# Altium schematic symbol library UltraZohm_ADC.SCHLIB: 63 symbols
Pins are listed as number, name and electrical type; pins without a type are passive.

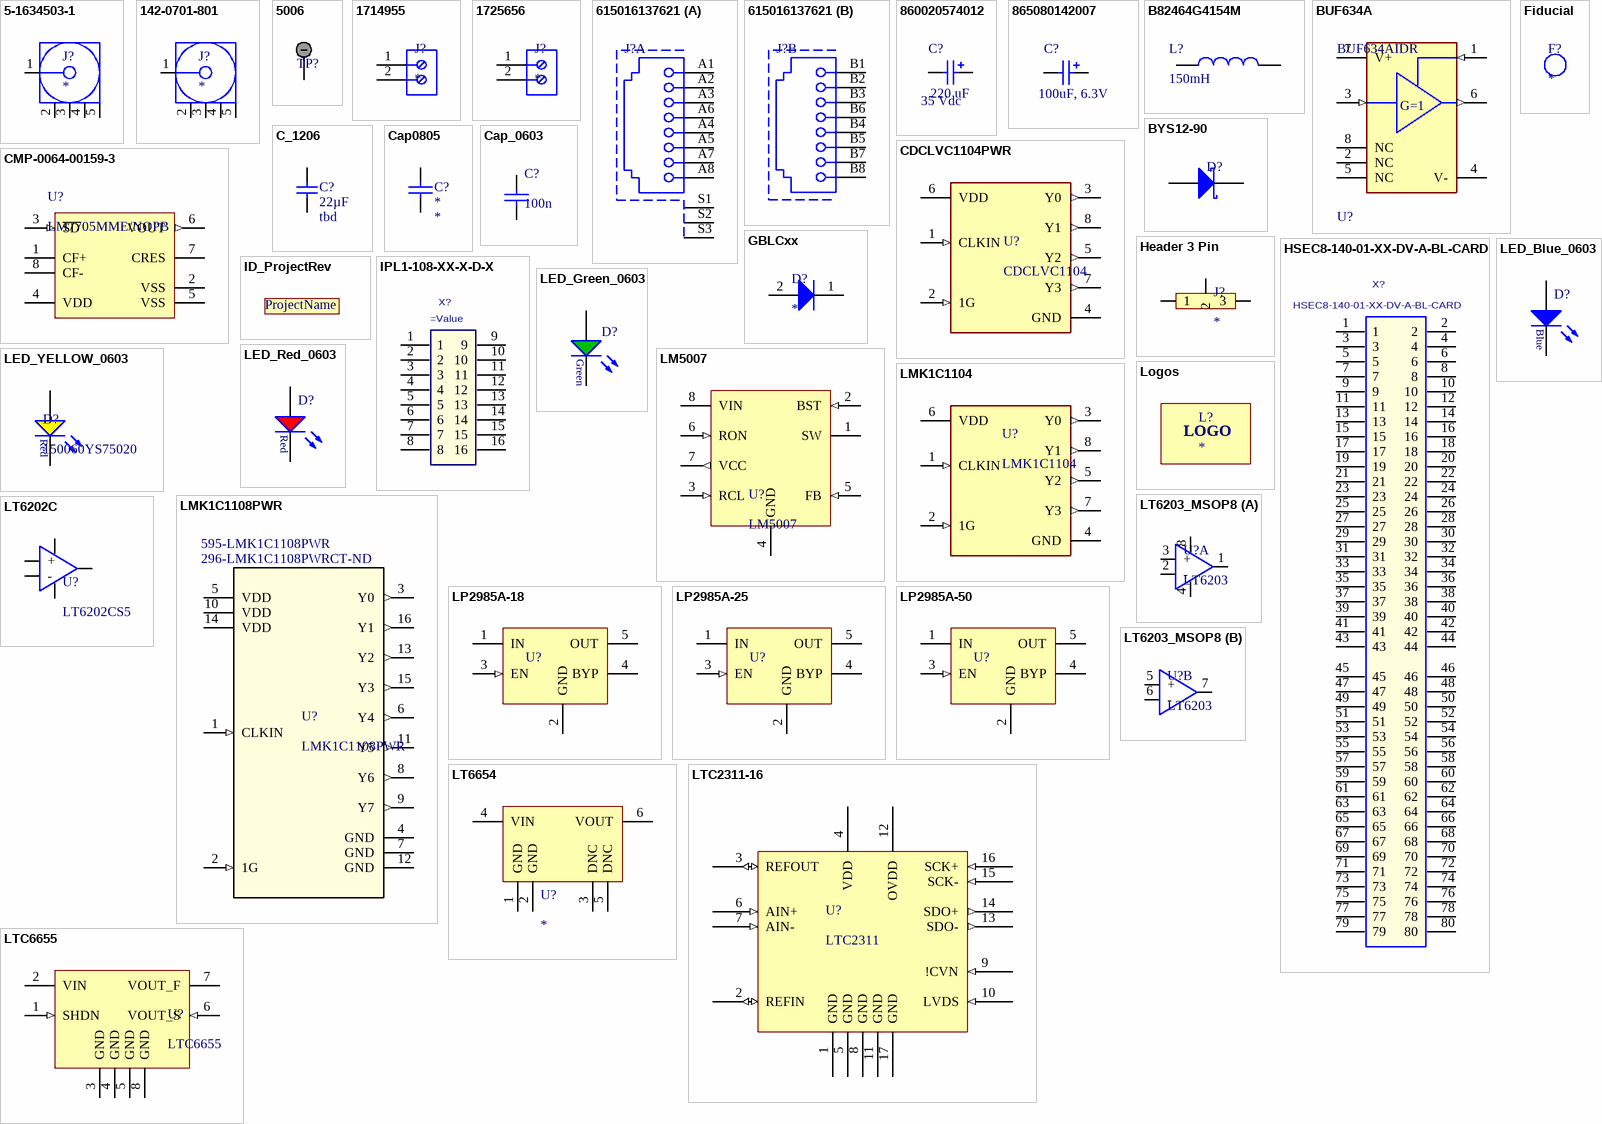
[diagram p0: symbols 5-1634503-1 to LTC6655]

## 5-1634503-1
designator J?
BNC Str PCB Skt 50Ohm Nickel Pltd; Manufacturer: TE Connectivity; Manufacturer Part Number: 5-1634503-1; Dielectric Material: Polymethylpentene; Body Material: Zinc; Impedance: 50R; Frequency: 4GHz; Gender: Female; Connector Type: BNC,Jack; Insulation Resistance: 5GR; Number of Positions: 1; PCB Mount Retention: With; Sealable: No (Without); Connector System: Cable-to-Board; Polarity: Standard,Normal; PCB Thickness: 0.126inch; Tail Length: 0.177inch; Supplier 1: Mouser; RoHS: Yes; Category: RF / Coaxial Connectors; Stock 1: 5615; Mount: Through Hole,PCB; Contact Material: Bronze; Contact Plating: Gold; Insulation Material: Polymethylpentene; Body Plating: Nickel; Min Operating Temperature: -67°C; Max Operating Temperature: 185°C; Orientation: Straight; Termination: Solder; Packaging: Box; Package Quantity: 100; Fastening Type: Bayonet; Max Frequency: 4GHz; Length: 13.7mm; Depth: 11mm; Radiation Hardening: No; ELV: Compliant; REACH SVHC: No SVHC; ComponentLink6URL: https://datasheet.ciiva.com/16652/eng-cd-1634503-c-16652893.pdf?src-supplier=Avnet+Europe; ComponentLink6Description: Product Drawing; Supplier Part Number 1: 571-5-1634503-1; ComponentLink7Description: Manufacturer; ComponentLink7URL: https://www.te.com/deu-de/home.html; ComponentLink8Description: Datasheet; ComponentLink8URL: https://www.te.com/deu-de/product-5-1634503-1.datasheet.pdf
footprint TECO-5-1634503-1_V (THD, 5-Leads,Dia 11mm, Pitch 3.13mm)
pins: 1, 2, 3, 4, 5

## 142-0701-801
designator J?
CONN SMA JACK STR 50OHM EDGE MNT; Manufacturer: Bel Johnson; Manufacturer Part Number: 142-0701-801; Body Plating: Gold; Body Material: Brass; Dielectric Material: PTFE; Impedance: 50R; Gender: Female; Connector Type: SMA,Socket; Max Frequency: 18GHz; Voltage Rating: 335V; Supplier 1: Mouser; RoHS: Yes; Category: RF / Coaxial Connectors; Stock 1: 12385; Mount: Edge; Case/Package: SMA; Contact Plating: Gold; Contact Material: Copper; Housing Color: Gold; Min Operating Temperature: -65°C; Max Operating Temperature: 165°C; Orientation: Straight; Termination: Solder; Package Quantity: 25; Packaging: Bulk; Fastening Type: Threaded; ComponentLink2URL: http://www.farnell.com/datasheets/2048966.pdf?src-supplier=Newark; ComponentLink2Description: Datasheet1; ComponentLink3URL: https://cinchconnectivity.com/OA_HTML/ibeCCtpItmDspRte.jsp?item=4253257&src-supplier=Mouser; ComponentLink3Description: Datasheet2; Supplier Part Number 1: 530-142-0701-801; ComponentLink4Description: Manufacturer; ComponentLink4URL: https://belfuse.com/
footprint 142-0701-801 (SMA Connector, 5-Leads, Body 14.275x9.525mm)
pins: 1, 2, 3, 4, 5

## 5006
designator TP?
Test Point;  Compact;  THM;  PC;  .350 L;  .125 OD;  Heat Resistant Nylon 46;  Black; Manufacturer: Keystone Electronics; Manufacturer Part Number: 5006; Body Material: PBT; Plating: Silver; Number of Ports: 1; Outside Diameter: 3.18mm; Inside Diameter: 1.78mm; Hole Diameter: 1.6mm; Supplier 1: Mouser; RoHS: Yes; Category: Connectors; Stock 1: 203116; Mount: PCB,Through Hole; Material: Nylon,Bronze,Silver; Contact Material: Bronze; Contact Plating: Tin,Silver; Color: Black; Housing Color: Black; Package Quantity: 100; Packaging: Bulk; Orientation: Straight; Length: 8.89mm; Height: 0.35inch; Lead Free: Lead Free; REACH SVHC: No SVHC; Flammability Rating: UL94 V-0; ComponentLink1URL: https://datasheet.ciiva.com/1123/m60-2p60-1123808.pdf?src-supplier=Newark; ComponentLink1Description: Datasheet1; ComponentLink2URL: https://datasheet.ciiva.com/1454/1718283-1454829.pdf?src-supplier=Element14; ComponentLink2Description: Datasheet2; ComponentLink3URL: https://datasheet.ciiva.com/11744/0900766b8009b7c7-11744947.pdf?src-supplier=RSComponents; ComponentLink3Description: Datasheet3; ComponentLink4URL: https://datasheet.ciiva.com/2917/m60-2p60-2917629.pdf?src-supplier=Digi-Key; ComponentLink4Description: Datasheet4; ComponentLink5URL: https://datasheet.ciiva.com/16883/70182825-16883963.pdf?src-supplier=Allied+Electronics; ComponentLink5Description: Datasheet5; Supplier Part Number 1: 534-5006; ComponentLink6Description: Manufacturer; ComponentLink6URL: https://www.keyelco.com/
footprint TP_5006 (Test Point, Through Hole, Dia 3.18mm)
pins: 1

## 1714955
designator J?
Conn Terminal Blocks 2 POS 6.35mm Solder ST Thru-Hole 32A; Manufacturer: Phoenix Contact; Manufacturer Part Number: 1714955; Max Supply Voltage: 500V; Voltage Rating: 630V; Number of Poles: 2; Number of Levels: 1; Current: 30A; Voltage: 300V; Gender: Male; Connector Type: PCB,Terminal Block; Wire Gauge (Max): 24AWG; Wire Gauge (Min): 10AWG; Stripping Length: 8mm; Approvals: UL,CSA,cULus; Supplier 1: Mouser; RoHS: Yes; Category: Terminal Blocks; Stock 1: 477; Mount: Through Hole; Number of Pins: 2; Weight: 0.197534oz; Color: Green; Housing Material: Polyamide; Housing Color: Green; Material: Polyamide; Insulation Material: Nylon; Contact Material: Tin; Package Quantity: 50; Packaging: Bulk; Termination: Screw; Max Current Rating: 32A; Current Rating: 32A; Number of Rows: 1; Orientation: Straight; Number of Positions Per Level: 2; Number of Positions: 2; Number of Contacts: 2; Number of Circuits: 2; Length: 12.7mm; Height: 26.6mm; Width: 26.6mm; Pitch: 6.35mm; Depth: 12.5mm; Wire/Cable Gauge: 24AWG; Radiation Hardening: No; Lead Free: Lead Free; Flammability Rating: UL94 V-0; REACH SVHC: No SVHC; ComponentLink1URL: https://datasheet.ciiva.com/16071/1714955-16071953.pdf?src-supplier=Onlinecomponents.com; ComponentLink1Description: Datasheet1; ComponentLink2URL: https://datasheet.ciiva.com/824/1714955-824307.pdf?src-supplier=Digi-Key; ComponentLink2Description: Datasheet2; ComponentLink3URL: https://datasheet.ciiva.com/1120/100944-1120389.pdf?src-supplier=Farnell; ComponentLink3Description: Datasheet3; ComponentLink4URL: https://datasheet.ciiva.com/15169/getdatasheetpartid-177883-15169653.pdf?src-supplier=Verical; ComponentLink4Description: Datasheet4; ComponentLink5URL: https://datasheet.ciiva.com/1118/100944-1118422.pdf?src-supplier=Element14; ComponentLink5Description: Datasheet5; ComponentLink6URL: https://datasheet.ciiva.com/14607/70054427-14607514.pdf?src-supplier=Allied+Electronics; ComponentLink6Description: Datasheet6; ComponentLink7URL: https://datasheet.ciiva.com/29218/744545-da-01-en-printklemme-mkds-5-2-6-35-29218282.pdf?src-supplier=Conrad; ComponentLink7Description: Datasheet7; Supplier Part Number 1: 651-1714955; ComponentLink8Description: Manufacturer; ComponentLink8URL: https://www.phoenixcontact.com/online/portal/de?1dmy&urile=wcm:path:/dede/web/home
footprint PHOE-1714955_V (Terminal Block, 2-Leads, Body 12.7x12.5mm, Pitch 6.35mm)
pins: 1, 2

## 1725656
designator J?
PHOENIX CONTACT - 1725656 - Wire-To-Board Terminal Block, 2.54 mm, 2 Ways, 26 AWG, 20 AWG, 0.5 mm², Screw; Voltage Rating: 125V; Number of Contacts: 2; Max Current Rating: 6A; Number of Levels: 1; Max Supply Voltage: 63V; Connector Type: Screw,PCB,Terminal Block; Wire Gauge (Max): 26AWG; Wire Gauge (Min): 20AWG; Pitch: 2.54mm; Stripping Length: 4.5mm; Approvals: UL,CSA,cULus; Supplier 1: Mouser; Manufacturer: Phoenix Contact; Manufacturer Part Number: 1725656; RoHS: Yes; Category: Terminal Blocks; Stock 1: 6749; Mount: Through Hole; Number of Pins: 2; Weight: 0.022575oz; Contact Material: Tin; Color: Green; Housing Color: Green; Housing Material: Polyamide; Insulation Material: Nylon; Termination: Solder; Package Quantity: 50; Packaging: Bulk; Voltage: 125V; Number of Rows: 1; Current Rating: 6A; Number of Positions Per Level: 2; Current: 6A; Number of Positions: 2; Orientation: Straight; Number of Poles: 2; Number of Circuits: 2; Length: 5.54mm; Height: 6.2mm; Width: 12mm; Depth: 6.2mm; Wire/Cable Gauge: 26AWG; Radiation Hardening: No; Lead Free: Lead Free; Flammability Rating: UL94 V-0; REACH SVHC: No SVHC; ComponentLink3URL: https://datasheet.ciiva.com/1120/319957-1120510.pdf?src-supplier=Farnell; ComponentLink3Description: Datasheet1; ComponentLink4URL: https://datasheet.ciiva.com/15169/getdatasheetpartid-199323-15169849.pdf?src-supplier=Verical; ComponentLink4Description: Datasheet2; Supplier Part Number 1: 651-1725656; ComponentLink5Description: Manufacturer; ComponentLink5URL: https://www.phoenixcontact.com/online/portal/de?1dmy&urile=wcm:path:/dede/web/home
footprint PHOE-1725656-2 (Connector, 2-Leads, Body 6.2x5.4mm, Pitch 2.54mm)
pins: 1, 2

## 615016137621
designator J?
Modular Jack WR-MJ, Tab Down, Shielded, Dual Port, Horizontal Entry, THT, 8P8C; MPN: 615016137621; MF: Wurth Elektronik; Port: 1x2; Compliance: Lead free / RoHS; Rated Current: 1.5 A; Working Voltage: 120 VAC; Withstanding Voltage: 1000 VAC; Contact Resistance: 20 mOhm; ComponentLink1Description: Manufacturer; ComponentLink1URL: http://www.we-online.de; ComponentLink2Description: Datasheet; ComponentLink2URL: https://katalog.we-online.de/em/datasheet/615016137621.pdf; Published Date: July 2018; Pin Number: 8P8C; Operating Temperature: -40 to 85 degC; Mounting Technology: THT; Packaging: Tray; Entrance: Horizontal; Supplier 1: Farnell; Supplier 2: Mouser; Supplier 3: Digi-Key; Supplier Part Number 1: 1841174; Supplier Part Number 2: 710-615016137621; Supplier Part Number 3: 732-2744-ND
footprint 615016137621 (Modular Jack Horizontal Shielded Dual Port 8P8C Tab Down)
part A pins: A1, A2, A3, A4, A5, A6, A7, A8, S1, S2, S3
part B pins: B1, B2, B3, B4, B5, B6, B7, B8

## 860020574012
designator C?, comment 220 uF  Voltage: 35 Vdc
WCAP-ATG5 Aluminum Electrolytic Capacitors, 8x11.5mm, 35 Vdc, 220 uF; Part Number: 860020574012; MF: Wurth Elektronik; ComponentLink1Description: Manufacturer; ComponentLink1URL: http://www.we-online.de; ComponentLink2Description: Datasheet; ComponentLink2URL: http://katalog.we-online.com/pbs/datasheet/860020574012.pdf; Published Date: Sep. 2017; Size: 8x11.5mm; Life Cycle: 2000h; Operating Temperature: -40 °C up to +105 °C; Value: 220 uF; MPN: 860020574012; Supplier 1: Mouser; Supplier Part Number 1: 710-860020574012
footprint WCAP-ATG5_8x11.5x3.5
pins: 1 P, 2 N

## 865080142007
designator C?, comment 100uF, 6.3V
WCAP-ASLI Aluminum Electrolytic Capacitor, V-Chip, SMT, D5xH5.5mm, 100uF, 6.3V; MPN: 865080142007; Dissipation Factor: 24%; Endurance: 2000h; Leakage Current: 6.3uA; MF: Wurth Elektronik; Ripple Current: 170mA; Capacitance Tolerance: +/-20%; Technical Reference: ASEC055101M6R3DVCTBB000; ComponentLink1Description: Manufacturer; ComponentLink1URL: http://www.we-online.de; ComponentLink2Description: Datasheet; ComponentLink2URL: https://www.we-online.com/catalog/datasheet/865080142007.pdf; Height: 5.5mm; Mounting Technology: SMT; Operating Temperature: -55 to +105degC; Packaging: Tape and Reel; Published Date: May 2020; Value: 100uF; Diameter: 5mm; Voltage: 6.3V; Supplier 1: Mouser; Supplier Part Number 1: 710-865080142007
footprint WCAP-ASLI_5x5.5
pins: 1 N, 2 P

## B82464G4154M
designator L?, comment 150mH
SMT power Inductor, 150uH, 320m DRC; MPN: B82464G4154M; MF: EPCOS / TDK; Rated Current: 0.85 A; Supplier 1: Mouser; Supplier Part Number 1: 871-B82464G4154M; Value: 150mH; DCR: 320m; ComponentLink1Description: Manufacturer; ComponentLink1URL: https://www.tdk-electronics.tdk.com/de; ComponentLink2Description: Datasheet; ComponentLink2URL: https://www.tdk-electronics.tdk.com/inf/30/db/ind_2008/b82464g4.pdf
footprint SMT_inductor_1050_Performance (SMD Shielded Power Inductor, 2-leads, body 10.3x10.5mm)
pins: 1, 2

## BUF634A
designator U?, comment BUF634AIDR
IC OP AMP BUFFER 8SOIC; Manufacturer: Texas Instruments; Voltage Gain: 0.00099V/mV; Standoff Height: 0.11mm; Min Dual Supply Voltage: 2.25V; Gain Bandwidth: 240MHz; Output Current Per Channel: 250mA; Input Offset Voltage: 36mV; Min Supply Voltage: 4.5V; Number Of Channels: 1; Max Junction Temp: +150°C; Max Supply Voltage: 36V; Bandwidth: 35-210MHz; Input Bias Current: 0.03-0.25uA; Max Dual Supply Voltage: 18V; Nominal Supply Current: 1.5-8.5mA; Height: 1.75mm; Manufacturer Part Number: BUF634AIDR; Automotive: No; Digikey Description: IC OP AMP BUFFER 8SOIC; Device Class L3: Buffer; ComponentLink2URL: http://www.ti.com/lit/ds/symlink/buf634a.pdf; Category: IC; Device Class L2: Linear ICs; Device Class L1: Integrated Circuits (ICs); Temperature Range Low: -40°C; Package: SOIC8; Temperature: -40°C to +125°C; Temperature Range High: +125°C; Mouser Description: High-Speed Buffer 1 Channel 35MHz to 210MHz 36V 250mA Bipolar 8-Pin SOIC T/R; Octopart: https://octopart.com/buf634aidr-texas+instruments-99505311; RoHS: TRUE; Lead Free: Yes; ComponentLink2Description: Datasheet
footprint FP-BUF634AIDR-IPC_C
footprint FP-BUF634AIDR-MFG
footprint FP-BUF634AIDR-IPC_B
footprint FP-BUF634AIDR-IPC_A
pins: 1 BW (in), 2 NC, 3 VIN (in), 4 V- (power), 5 NC, 6 VO (out), 7 V+ (power), 8 NC
text: G=1

## BYS12-90
designator D?
Schottky Diode; MPN: BYS12-90-E3/TR3; MF: Vishay; Forward Voltage: 750mV; Reverse Voltage: 90V; Rated Current: 1.5A; Package: DO-214AC; Supplier 1: Farnell; Supplier 2: Mouser; Supplier 3: Digi-Key; Supplier Part Number 1: 2889144; Supplier Part Number 2: 625-BYS12-90-E3/TR3; Supplier Part Number 3: BYS12-90-E3/GICT-ND; ComponentLink1Description: Manufacturer; ComponentLink1URL: https://www.vishay.com/; ComponentLink2Description: Datasheet; ComponentLink2URL: https://www.vishay.com/docs/88950/bys12-90.pdf
footprint DIOM4227X23N (Molded Diode, 2-Leads, Body 4,25x2,67mm, IPC Medium Density)
pins: 1 K, 2 A

## C_1206
designator C?, comment 22µF  Voltage: tbd
Capacitor 1206; Tolerance: 10%; Package: 1206; Value: 22µF; Created: 2018_06_25_AGeiger; Supplier 1: tbd; Supplier Part Number 1: tbd; MF: tbd; MPN: tbd; Dielectric: tbd
footprint C_1206
pins: 1, 2

## Cap0805
designator C?
CAP CER 0805; Supplier 1: Mouser; Supplier 2: *; Supplier Part Number 1: *; Supplier Part Number 2: *; Package: 0805; Dielectric: *; MPN: *; Value: *; Voltage: *
footprint Cap0805
pins: 1, 2

## Cap_0603
designator C?, comment 100n
Value: 100n; MF: *; MPN: *; Supplier 1: *; Supplier 2: *; Supplier Part Number 1: *; Supplier Part Number 2: *; Voltage: *
footprint CAPC1608X07N (Chip Capacitor, 2-Leads, Body 1,60x0,80mm, IPC Medium Density)
pins: 1, 2

## CDCLVC1104PWR
designator U?, comment CDCLVC1104
Clock Fanout Buffer 4-OUT 8-Pin TSSOP T/R; Manufacturer: Texas Instruments; Manufacturer Part Number: CDCLVC1104PWR; Number of Outputs: 4; Number of Circuits: 1; Max Frequency: 250MHz; Input: LVCMOS; Max Supply Voltage: 3.6V; Min Supply Voltage: 2.3V; Propagation Delay: 2ns; Turn-On Delay Time: 10ns; Stock 1: 5442; Mount: Surface Mount; Case/Package: TSSOP; Number of Pins: 8; Weight: 0.005573oz; Contact Plating: Gold; Min Operating Temperature: -40°C; Max Operating Temperature: 85°C; Packaging: Tape and Reel; Frequency: 250MHz; Package Quantity: 2000; Radiation Hardening: No; REACH SVHC: No SVHC; Lead Free: Lead Free; ComponentLink1URL: http://www.ti.com/lit/pdf/slyb191?src-supplier=Digi-Key; ComponentLink1Description: Analog Signal Chain Portfolio; ComponentLink2URL: http://www.ti.com/general/docs/lit/getliterature.tsp?genericPartNumber=CDCLVC1104&&fileType=pdf&src-supplier=Avnet; ComponentLink2Description: Datasheet; Supplier 1: Mouser; Supplier Part Number 1: 595-CDCLVC1104PWR
footprint FP-PW0008A-MFG
pins: 1 CLKIN (in), 2 1G (in), 3 Y0 (out), 4 GND (power), 5 Y2 (out), 6 VDD (power), 7 Y3 (out), 8 Y1 (out)

## CMP-0064-00159-3
designator U?, comment LM7705MME/NOPB
Low Noise Negative Bias Generator, 8-pin Mini SOIC, Pb-Free; Manufacturer: Texas Instruments; PowerWise: N; PackageTopMarking: ZXTT*F26A; CompType: OtherParts; PinCount: 8; RoHS: Y; ComponentLink1Description: Datasheet URL; ComponentLink1URL: http://www.ti.com/general/docs/lit/getliterature.tsp?genericPartNumber=LM7705&fileType=pdf; PackageDescription: MINI SOIC, .118 x .118 x .034in, 8 Lead, .0256in Pitch; Code_JEDEC: MO-187-AA; PackageReference: DGK0008A
footprint DGK0008A_N (TSOP, 8-Leads, Body 3.1x3.1mm, Pitch 0.65mm, IPC Medium Density)
pins: 1 CF+, 2 VSS (power), 3 ~{SD} (in), 4 VDD (power), 5 VSS (power), 6 VOUT (out), 7 CRES, 8 CF-

## Fiducial
designator F?  (no BOM)
Fiducial for Assembler
footprint Fiducial_1.7mm (Fiducial)

## GBLCxx
designator D?
Ultra Low Capacitance TVS Array; MF: ProTek Devices; MPN: *; Package: SOD-323; Supplier 1: arrow; Supplier 2: futureelectronics; Supplier Part Number 1: *; Supplier Part Number 2: *; standoff voltage: *; breakdown voltage: *; Model: *; ComponentLink1Description: Datasheet; ComponentLink1URL: https://static6.arrow.com/aropdfconversion/cf1b73a38d87e210bfa153441e03466b149f09ba/gblci.pdf
footprint SOD-323_SuppressorDiode (SOD, 2-Leads, Body 1.7x1.25mm)
pins: 1 K, 2 A

## Header 3 Pin
designator J?
footprint Header 3 Pin
pins: 1, 2, 3

## HSEC8-140-01-XX-DV-A-BL-CARD
designator X?
Mating Card Layout for HSEC8-140-01-XX-DV-A-BL; Manufacturer: SAMTEC; Created: 2018_04_23_AGeiger; Value: HSEC8-140-01-XX-DV-A-BL-CARD; ComponentLink1Description: Info; ComponentLink1URL: https://www.samtec.com/de/products/hsec8-140-01-l-dv-a-bl-k-tr
footprint HSEC8-140-01-XX-DV-A-BL-CARD
pins: 1, 2, 3, 4, 5, 6, 7, 8, 9, 10, 11, 12, 13, 14, 15, 16, 17, 18, 19, 20, 21, 22, 23, 24, 25, 26, 27, 28, 29, 30, 31, 32, 33, 34, 35, 36, 37, 38, 39, 40, 41, 42, 43, 44, 45, 46, 47, 48, 49, 50, 51, 52, 53, 54, 55, 56, 57, 58, 59, 60, 61, 62, 63, 64, 65, 66, 67, 68, 69, 70, 71, 72, 73, 74, 75, 76, 77, 78, 79, 80

## ID_ProjectRev
designator ProjectName, comment Project Name, Rev  (value not drawn)  (no BOM)
Project Name and Revision Number; Created: 2018_11_23_AGeiger; Value: Project Name, Rev
footprint ID_ProjectRev (project name + revision number)

## IPL1-108-XX-X-D-X
designator X?
2.54mm Double Row Terminal Assembly; MF: SAMTEC; Created: 2018_09_17_AGeiger; Value: =MPN; Supplier 1: Mouser; Supplier Part Number 1: 200-IPL110801LDRAK
footprint IPL1-108-01-L-D-RA-K
pins: 1, 2, 3, 4, 5, 6, 7, 8, 9, 10, 11, 12, 13, 14, 15, 16

## LED_Blue_0603
designator D?, comment 150060BS75000  (value not drawn)
WL-SMCW SMD Mono-color Chip LED Waterclear, size 0603, Blue, 3.2 V, 140°; Forward Voltage: 3.2 V; Luminous Intensity: 145 mcd; Peak Wavelength: 465 nm; Dominant Wavelength: 470 nm; MF: Wuerth Elektronik; Published Date: Sep. 2017; ComponentLink1Description: Manufacturer; ComponentLink1URL: http://www.we-online.de; ComponentLink2Description: Datasheet; ComponentLink2URL: http://katalog.we-online.com/led/datasheet/150060BS75000.pdf; MPN: 150060BS75000; Size: 0603; Viewing Angle: 140°; Emitting Color: Blue; Value: 150060BS75000; Package: 0603; Created: 2018_09_06_AGeiger; Supplier 1: Farnell; Supplier Part Number 1: 2322069; Supplier 2: Mouser; Supplier Part Number 2: 710-150060BS75000; Supplier 3: Digi-Key; Supplier Part Number 3: 732-4966-1-ND
footprint WL-SMCW_0603 (SMD Mono-color Chip LED, body 1.6x0.8mm)
pins: 1 K, 2 A

## LED_Green_0603
designator D?, comment 150060GS75000  (value not drawn)
WL-SMCW SMD Mono-color Chip LED Waterclear, size 0603, Green, 3.2 V, 140°; Forward Voltage: 3.2 V; Luminous Intensity: 430 mcd; Peak Wavelength: 515 nm; Dominant Wavelength: 520 nm; MF: Wuerth Elektronik; Published Date: Sep. 2017; ComponentLink1Description: Manufacturer; ComponentLink1URL: http://www.we-online.de; ComponentLink2Description: Datasheet; ComponentLink2URL: http://katalog.we-online.com/led/datasheet/150060GS75000.pdf; MPN: 150060GS75000; Size: 0603; Viewing Angle: 140°; Emitting Color: Green; Value: 150060GS75000; Package: 0603; Created: 2018_09_06_AGeiger; Supplier 1: Farnell; Supplier Part Number 1: 2322070; Supplier 2: Mouser; Supplier Part Number 2: 710-150060GS75000; Supplier 3: Digi-Key; Supplier Part Number 3: 732-4971-1-ND
footprint WL-SMCW_0603 (SMD Mono-color Chip LED, body 1.6x0.8mm)
pins: 1 K, 2 A

## LED_Red_0603
designator D?, comment 150060RS75000  (value not drawn)
WL-SMCW SMD Mono-color Chip LED Waterclear, size 0603, Red, 2 V, 140°; Forward Voltage: 2 V; Luminous Intensity: 250 mcd; Peak Wavelength: 630 nm; Dominant Wavelength: 625 nm; MF: Wuerth Elektronik; Published Date: Sep. 2017; ComponentLink1Description: Manufacturer; ComponentLink1URL: http://www.we-online.de; ComponentLink2Description: Datasheet; ComponentLink2URL: http://katalog.we-online.com/led/datasheet/150060RS75000.pdf; MPN: 150060RS75000; Size: 0603; Viewing Angle: 140°; Emitting Color: Red; Value: 150060RS75000; Package: 0603; Created: 2018_09_06_AGeiger; Supplier 1: Farnell; Supplier Part Number 1: 2322071; Supplier 2: Mouser; Supplier Part Number 2: 710-150060RS75000; Supplier 3: Digi-Key; Supplier Part Number 3: 732-4978-1-ND
footprint WL-SMCW_0603 (SMD Mono-color Chip LED, body 1.6x0.8mm)
pins: 1 K, 2 A

## LED_YELLOW_0603
designator D?, comment 150060YS75020
WL-SMCW SMD Mono-color Chip LED Waterclear, size 0603, Yellow, 2 V, 140°; Forward Voltage: 2V; MF: Wuerth Elektronik; Peack Wavelength: 595 nm; Emitting Color: Yellow; MPN: 150060YS75020; Package: 0603; Supplier: Mouser; Supplier Partnumber: 710-150060YS75020; Value: 150060YS75020; ComponentLink1Description: Manufacturer; ComponentLink1URL: https://www.we-online.com/web/en/wuerth_elektronik/start.php; ComponentLink2Description: Datasheet; ComponentLink2URL: https://www.mouser.de/datasheet/2/445/150060YS75020-1714732.pdf
footprint WL-SMCW_0603 (SMD Mono-color Chip LED, body 1.6x0.8mm)
pins: 1 K, 2 A
text: Red

## LM5007
designator U?
Buck Converter, 9-75Vin, 2.5-73Vout; MPN: LM5007MM/NOPB; MF: Texas Instruments; Supplier 1: Farnell; Supplier 2: Mouser; Supplier 3: Digi-Key; Supplier Part Number 1: 9779345; Supplier Part Number 2: 926-LM5007MM/NOPB; Supplier Part Number 3: LM5007MM/NOPBCT-ND; Package: VSSOP-8; ComponentLink1Description: Manufacturer; ComponentLink1URL: https://www.ti.com/; ComponentLink2Description: Datasheet; ComponentLink2URL: https://www.ti.com/lit/ds/symlink/lm5007.pdf?ts=1616234834930&ref_url=https%253A%252F%252Fwww.google.ru%252F
footprint TSOP65P490X110-8N (TSOP, 8-Leads, Body 3,00x3,00mm, Pitch 0,65mm, IPC Medium Density)
pins: 1 SW (power), 2 BST (in), 3 RCL (in), 4 GND (power), 5 FB (in), 6 RON (in), 7 VCC (out), 8 VIN (power)

## LMK1C1104
designator U?
4-channel output LVCMOS 1.8-V buffer; Manufacturer: Texas Instruments; Manufacturer Part Number: LMK1C1104PWR; Number of Outputs: 4; Frequency: 250MHz; Max Supply Voltage: 3.465V; Min Supply Voltage: 1.71V; Propagation Delay: 3ns; Mount: Surface Mount; Package: TSSOP; Number of Pins: 8; Input: LVCMOS; Supplier 1: Mouser; Supplier Part Number 1: 595-LMK1C1104PWR; ComponentLink1Description: Manufacturer; ComponentLink1URL: https://www.ti.com/; ComponentLink2Description: Datasheet; ComponentLink2URL: https://www.ti.com/lit/ds/symlink/lmk1c1104.pdf?ts=1616933763692&ref_url=https%253A%252F%252Fwww.ti.com%252Fproduct%252FLMK1C1104
footprint FP-PW0008A-MFG
pins: 1 CLKIN (in), 2 1G (in), 3 Y0 (out), 4 GND (power), 5 Y2 (out), 6 VDD (power), 7 Y3 (out), 8 Y1 (out)

## LMK1C1108PWR
designator U?  Supplier Part Number 1: 296-LMK1C1108PWRCT-ND  Supplier Part Number 2: 595-LMK1C1108PWR
8-channel output LVCMOS 1.8V buffer; MF: Texas Instruments; MPN: LMK1C1108PWR; Supplier 1: Digi-Key; Supplier 2: Mouser
footprint PW0016A_M
pins: 1 CLKIN (in), 2 1G (in), 3 Y0 (out), 4 GND (power), 5 VDD (power), 6 Y4 (out), 7 GND (power), 8 Y6 (out), 9 Y7 (out), 10 VDD (power), 11 Y5 (out), 12 GND (power), 13 Y2 (out), 14 VDD (power), 15 Y3 (out), 16 Y1 (out)

## Logos
designator L?
footprint Logo_Partners_1 (THN, TUM and USACH Logo)
footprint Logo_Partners_2 (USACH, THN and TUM Logo)
text: LOGO

## LP2985A-18
designator U?
150mA, LDO, Vout = 1.8V , Vin,max = 16V; Manufacturer 1: Texas Instruments; Manufacturer Part Number 1: LP2985A-18; Supplier 1: Mouser; Supplier Part Number 1: 595-LP2985A-18DBVJ; Package: SOT-23-5; ComponentLink1Description: Manufacturer; ComponentLink1URL: https://www.ti.com/; ComponentLink2Description: Datasheet; ComponentLink2URL: https://www.ti.com/lit/ds/symlink/lp2985a.pdf
footprint SOT95P250X110-5N (SOT23, 5-Leads, Body 2,92x2,50mm, Pitch 0,95mm, IPC Medium Density)
pins: 1 IN (power), 2 GND (power), 3 EN (in), 4 BYP, 5 OUT (power)

## LP2985A-25
designator U?
150mA, LDO, Vout = 2.5V, Vin,max = 16V; MPN: LP2985A-25; MF: Texas Instruments; Supplier 1: Mouser; Supplier Part Number 1: 595-LP2985A-25DBVR; Package: SOT-23-5; ComponentLink1Description: Manufacturer; ComponentLink1URL: https://www.ti.com/; ComponentLink2Description: Datasheet; ComponentLink2URL: https://www.ti.com/lit/ds/symlink/lp2985a.pdf
footprint SOT95P250X110-5N (SOT23, 5-Leads, Body 2,92x2,50mm, Pitch 0,95mm, IPC Medium Density)
pins: 1 IN (power), 2 GND (power), 3 EN (in), 4 BYP, 5 OUT (power)

## LP2985A-50
designator U?
150mA, LDO, Vout = 5V, Vin,max = 16V; MPN: LP2985A-50; MF: Texas Instruments; Supplier 1: Mouser; Supplier Part Number 1: 595-LP2985A-50DBVR; Package: SOT-23-5; ComponentLink1Description: Manufacturer; ComponentLink1URL: https://www.ti.com/; ComponentLink2Description: Datasheet; ComponentLink2URL: https://www.ti.com/lit/ds/symlink/lp2985a.pdf
footprint SOT95P250X110-5N (SOT23, 5-Leads, Body 2,92x2,50mm, Pitch 0,95mm, IPC Medium Density)
pins: 1 IN (power), 2 GND (power), 3 EN (in), 4 BYP, 5 OUT (power)

## LT6202C
designator U?, comment LT6202CS5
Single Ch, 100MHz, Low Power OpAmp; MPN: LT6202CS5#TRMPBF; MF: Linear Technology/Analog Devices; Value: *; Supplier 1: Mouser; Supplier 2: Digi-Key; Supplier Part Number 1: 584-LT6202CS5#TRMPBF; Supplier Part Number 2: LT6202CS5#TRMPBFCT-ND; Package: SOT-5; ComponentLink1Description: Manufacturer; ComponentLink1URL: https://www.analog.com/en/index.html; ComponentLink2Description: Datasheet; ComponentLink2URL: https://www.analog.com/media/en/technical-documentation/data-sheets/620234fd.pdf
footprint SOT95P250X110-5N (SOT23, 5-Leads, Body 2,92x2,50mm, Pitch 0,95mm, IPC Medium Density)
pins: 1, 2, 3 +, 4 -, 5

## LT6203_MSOP8
designator U?, comment LT6203
2 Ch Low Noise, Low Power OpAmp; MPN: LT6203CMS8#PBF; MF: Linear Technology; Created: Kreppel_20190830; Package: MSOP-8; Supplier 1: Mouser; Supplier Part Number 1: 584-LT6203CMS8#PBF; ComponentLink1Description: Manufacturer; ComponentLink1URL: https://www.analog.com/en/index.html; ComponentLink2Description: Datasheet; ComponentLink2URL: https://www.analog.com/media/en/technical-documentation/data-sheets/620234fd.pdf
footprint MSOP8_3x3-8N (TSOP, 8-Leads, Body 3,00x3,00mm, Pitch 0,65mm, IPC Medium Density)
part A pins: 1, 2 -, 3 +, 4, 8
part B pins: 5 +, 6 -, 7

## LT6654
designator U?
MPN: LT6654AIS6-5#TRMPBF; MF: Analog Devices; Package: TSOT-23-6; Supplier 1: Farnell; Supplier 2: Mouser; Supplier 3: Digi-Key; Supplier Part Number 1: 2761960; Supplier Part Number 2: 584-6654AIS65TRMPBF; Supplier Part Number 3: LT6654AIS6-5#TRMPBFCT-ND; ComponentLink1Description: Manufacturer; ComponentLink1URL: https://www.analog.com/en/index.html; ComponentLink2Description: Datasheet; ComponentLink2URL: https://www.analog.com/media/en/technical-documentation/data-sheets/6654fh.pdf
footprint SOT95P280X100-6N (SOT23, 6-Leads, Body 2,90x2,80mm, Pitch 0,95mm, IPC Medium Density)
pins: 1 GND (power), 2 GND (power), 3 DNC, 4 VIN (power), 5 DNC, 6 VOUT (power)

## LTC2311-16
designator U?, comment LTC2311
16 Bit SAR ADC, 5MSps; MPN: LTC2311CMSE-16#PBF; MF: Analog Devices; Package: MSOP-16; Supplier 1: Mouser; Supplier 2: Digi-Key; Supplier Part Number 1: 584-C2311CMSE-16PBF; Supplier Part Number 2: LTC2311CMSE-16#PBF-ND; ComponentLink1Description: Manufacturer; ComponentLink1URL: https://www.analog.com/en/index.html; ComponentLink2Description: Datasheet; ComponentLink2URL: https://www.analog.com/media/en/technical-documentation/data-sheets/231116fa.pdf
footprint TSSOP50P510X110_HS-17N (TSSOP, 16-Leads, Body 4,03x3,00mm, Pitch 0,50mm, Thermal Pad 2,95x1,75mm, IPC Medium Density)
pins: 1 GND (power), 2 REFIN (io), 3 REFOUT (io), 4 VDD (power), 5 GND (power), 6 AIN+ (in), 7 AIN- (in), 8 GND (power), 9 !CVN (in), 10 LVDS (in), 11 GND (power), 12 OVDD (power), 13 SDO- (out), 14 SDO+ (out), 15 SCK- (in), 16 SCK+ (in), 17 GND (power)

## LTC6655
designator U?
Precision Reference, 1.25/2/2.5/3/3.3/4/5V
footprint TSOP65P490X110-8N (TSOP, 8-Leads, Body 3,00x3,00mm, Pitch 0,65mm, IPC Medium Density)
pins: 1 SHDN (in), 2 VIN (power), 3 GND (power), 4 GND (power), 5 GND (power), 6 VOUT_S (in), 7 VOUT_F (power), 8 GND (power)

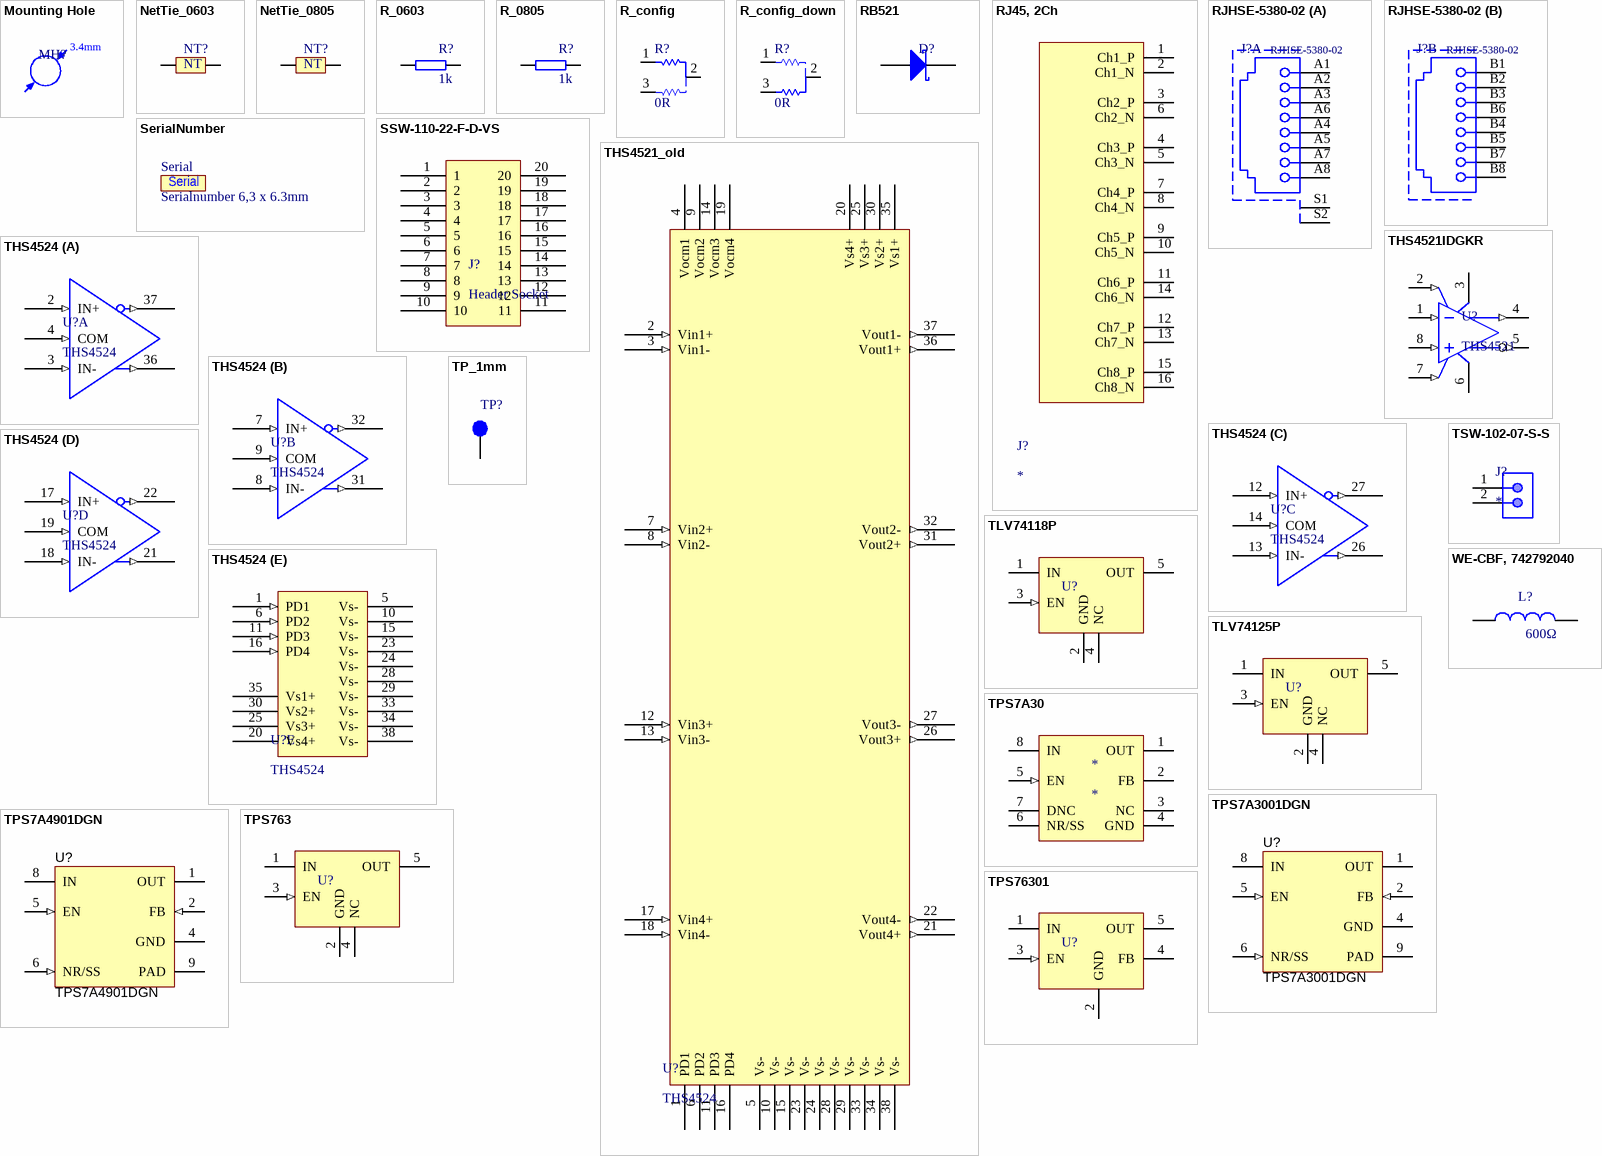
[diagram p1: symbols Mounting Hole to WE-CBF, 742792040]

## Mounting Hole
designator MH?, comment mounting hole 3,4mm  (value not drawn)
Non plated through hole, 3.4mm
footprint MH_3.4
text: 3.4mm

## NetTie_0603
designator NT?  (net tie, no BOM)
footprint NetTie_0603 (Chip Resistor, 2-Leads, Body 1,60x0,80mm, IPC Medium Density)
pins: 1, 2
text: NT

## NetTie_0805
designator NT?  (net tie, no BOM)
footprint NetTie
pins: 1, 2
text: NT

## R_0603
designator R?, comment 1k
Value: 1k; MF: *; MPN: *; Supplier 1: *; Supplier Part Number 1: *
footprint RESC1608X06N (Chip Resistor, 2-Leads, Body 1,60x0,80mm, IPC Medium Density)
pins: 1, 2

## R_0805
designator R?, comment 1k
Case_EIA: 0805; Value: 1k
footprint RESC0805 (Chip Resistor, 2-Leads, Body 2,00x1,25mm, IPC Medium Density)
pins: 1, 2

## R_config
designator R?, comment 0R
Solder resistor/jumper between pads 1 and 2 for standard function. Solder resistor between pads 2 and 3 for alternative function; Created: 2018_09_04_AGeiger; Value: 0R; Package: 0603
footprint 0603_Config (0603 3-Pin Config Footprint)
pins: 1, 2, 3

## R_config_down
designator R?, comment 0R
Solder resistor/jumper between pads 1 and 2 for standard function. Solder resistor between pads 2 and 3 for alternative function; Created: 2018_09_04_AGeiger; Value: 0R; Package: 0603
footprint 0603_Config_down (0603 3-Pin Config Footprint)
pins: 1, 2, 3

## RB521
designator D?
Schottky Diode, If = 0.2A; MPN: RB521CS; MF: Vishay; Forward Voltage: 450mV; Reverse Voltage: 40V; Package: SOD-523-2; Supplier 1: Mouser; Supplier Part Number 1: 755-RB521SM-40FHT2R; Rated Current: 0.2A; ComponentLink1Description: Manufacturer; ComponentLink1URL: https://www.vishay.com/; ComponentLink2Description: Datasheet; ComponentLink2URL: https://www.vishay.com/docs/88950/bys12-90.pdf
footprint SOD-523 (SODFL, 2-Leads, Body 0,80x1,20mm, IPC Medium Density)
pins: 1 K, 2 A

## RJ45, 2Ch
designator J?
footprint RJ45, 2CH
pins: 1 Ch1_P, 2 Ch1_N, 3 Ch2_P, 4 Ch3_P, 5 Ch3_N, 6 Ch2_N, 7 Ch4_P, 8 Ch4_N, 9 Ch5_P, 10 Ch5_N, 11 Ch6_P, 12 Ch7_P, 13 Ch7_N, 14 Ch6_N, 15 Ch8_P, 16 Ch8_N

## RJHSE-5380-02
designator J?
Modular Connectors / Ethernet Connectors CAT 5 MODULAR JACK HIGH TEMP; MF: Amphenol; Pin Number: 8P8C; Port: 1x2; Entrance: Right Angle; Compliance: Lead free / RoHS; Rated Current: 1.5 A; Working Voltage: 125 VAC; Withstanding Voltage: 1000 VAC; Contact Resistance: 20 mOhm; ComponentLink1Description: Manufacturer; ComponentLink1URL: https://www.amphenol-icc.com/; ComponentLink2Description: Datasheet; ComponentLink2URL: https://cdn.amphenol-icc.com/media/wysiwyg/files/documentation/datasheet/inputoutput/io-modjack-rjhse.pdf; MPN: RJHSE-5380-02; Published Date: July 2018; Operating Temperature: -55 to 85 degC; Mounting Technology: THT; Packaging: Tray; Supplier 1: Mouser; Supplier Part Number 1: 523-RJHSE-5380-02; ComponentLink3Description: Product Drawing; ComponentLink3URL: https://cdn.amphenol-icc.com/media/wysiwyg/files/drawing/rjhsex38002.pdf
footprint RJHSE-5380-02 (Modular Jack Horizontal Shielded Dual Port 8P8C Tab Up)
part A pins: A1, A2, A3, A4, A5, A6, A7, A8, S1, S2
part B pins: B1, B2, B3, B4, B5, B6, B7, B8

## SerialNumber
designator Serial, comment Serialnumber 6,3 x 6.3mm  (no BOM)
Created: 2018_09_18_AGeiger; Value: Serialnumber 6,3 x 6.3mm
footprint Serial_6.3x6.3mm

## SSW-110-22-F-D-VS
designator J?, comment Header Socket
2 rows, 10 pins, 2.54mm spacing
footprint SSW-110-22-F-D-VS
pins: 1, 2, 3, 4, 5, 6, 7, 8, 9, 10, 11, 12, 13, 14, 15, 16, 17, 18, 19, 20

## THS4521_old
designator U?, comment THS4524
MPN: THS4524IDBTR; MF: Texas Instruments; Package: TSSOP-38; Supplier 1: Farnell; Supplier 2: Mouser; Supplier 3: Digi-Key; Supplier Part Number 1: 2496350; Supplier Part Number 2: 595-THS4524IDBTR; Supplier Part Number 3: 296-24315-1-ND; ComponentLink1Description: Manufacturer; ComponentLink1URL: https://www.ti.com/; ComponentLink2Description: Datasheet; ComponentLink2URL: https://www.ti.com/lit/ds/symlink/ths4521.pdf?ts=1616179878799&ref_url=https%253A%252F%252Fwww.google.com%252F
footprint THS4524 Footprint (THS4524 4Ch Dif Amp, TSSOP)
pins: 1 PD1 "Power Down Ch1", 2 Vin1+ (in) "Input Ch1", 3 Vin1- (in) "Inv Input Ch1", 4 Vocm1 (power) "Ch1 Common-mode", 5 Vs- (power) "Negative Source", 6 PD2 "Power Down Ch2", 7 Vin2+ (in) "Input Ch2", 8 Vin2- (in) "Inv Input Ch2", 9 Vocm2 (power) "Ch2 Common-mode", 10 Vs- (power) "Negative Source", 11 PD3 "Power Down Ch3", 12 Vin3+ (in) "Input Ch3", 13 Vin3- (in) "Inv Input Ch3", 14 Vocm3 (power) "Ch3 Common-mode", 15 Vs- (power) "Negative Source", 16 PD4 "Power Down Ch4", 17 Vin4+ (in) "Input Ch4", 18 Vin4- (in) "Inv Input Ch4", 19 Vocm4 (power) "Ch4 Common-mode", 20 Vs4+ (power) "Ch4 Source", 21 Vout4+ (out) "Ch4 Noninv Output", 22 Vout4- (out) "Ch4 Inv Output", 23 Vs- (power) "Negative Source", 24 Vs- (power) "Negative Source", 25 Vs3+ (power) "Ch3 Source", 26 Vout3+ (out) "Ch3 Noninv Output", 27 Vout3- (out) "Ch3 Inv Output", 28 Vs- (power) "Negative Source", 29 Vs- (power) "Negative Source", 30 Vs2+ (power) "Ch2 Source", 31 Vout2+ (out) "Ch2 Noninv Output", 32 Vout2- (out) "Ch2 Inv Output", 33 Vs- (power) "Negative Source", 34 Vs- (power) "Negative Source", 35 Vs1+ (power) "Ch1 Source", 36 Vout1+ (out) "Ch1 Noninv Output", 37 Vout1- (out) "Ch1 Inv Output", 38 Vs- (power) "Negative Source"

## THS4521IDGKR
designator U?, comment THS4521
IC AMP RRO NEG OUT VLP 8VSSOP (Single Channel fully differential Amplifier); Manufacturer: Texas Instruments; Manufacturer Part Number: THS4521IDGKR; Min Dual Supply Voltage: 1.5V; Max Dual Supply Voltage: 2.75V; Number of Channels: 1; Voltage Gain: 119dB; Slew Rate: 490V/µs; Max I/O Voltage: 2mV; Max Supply Voltage: 5.5V; Min Supply Voltage: 2.5V; Unity Gain Bandwidth Product: 95MHz; Common Mode Rejection Ratio: 80dB; Operating Supply Voltage: 5V; Bandwidth: 145MHz; Nominal Supply Current: 1.14mA; Input Bias Current: 900nA; Output Current per Channel: 55mA; Supplier 1: Mouser; RoHS: Yes; Category: Amplifiers - Op Amps, Buffer, Instrumentation; Stock 1: 12114; Pricing 1: 1=2,55000, 10=2,29000, 25=2,16000, 100=1,78000, 250=1,59000, 500=1,54000, 1000=1,28000, 2500=1,25000, 1=2,83000, 10=2,54000, 25=2,40000, 100=1,98000, 250=1,77000, 500=1,71000 (EUR); Case/Package: VSSOP; Number of Pins: 8; Weight: 0.000935oz; Min Operating Temperature: -40°C; Max Operating Temperature: 85°C; Packaging: Tape and Reel; Package Quantity: 2500; -3db Bandwidth: 145MHz; Gain Bandwidth Product: 95MHz; Input Offset Voltage (Vos): 2mV; Operating Supply Current: 1.14mA; Power Supply Rejection Ratio (PSRR): 80dB; Number of Circuits: 1; Number of Elements: 1; Number of Amplifiers: 1; Radiation Hardening: No; Lead Free: Lead Free; REACH SVHC: No SVHC; ComponentLink1URL: https://datasheet.ciiva.com/14456/sbos458f-14456592.pdf?src-supplier=Avnet; ComponentLink1Description: old Datasheet; ComponentLink2URL: https://datasheet.ciiva.com/18622/ths4521-18622155.pdf?src-supplier=Digi-Key; ComponentLink2Description: Datasheet; Supplier Part Number 1: 595-THS4521IDGKR; ComponentLink3Description: Manufacturer; ComponentLink3URL: https://www.ti.com/
footprint DGK0008A_N (TSOP, 8-Leads, Body 3.1x3.1mm, Pitch 0.65mm, IPC Medium Density)
pins: 1 VIN- (in) "Inverting amplifier input", 2 VOCM (in) "Common-mode voltage input", 3 VS+ (power) "Amplifier positive power-supply input", 4 VOUT+ (out) "Noninverting amplifier output", 5 VOUT- (out) "Inverting amplifier output", 6 VS- (power) "Amplifier negative power-supply input. Note that VS- is tied together on multi-channel devices.", 7 ~{PD} (in) "Power down. P\D\ = logic low puts device into low-power mode. P\D\ = logic high or open for normal operation.", 8 VIN+ (in) "Noninverting amplifier input"

## THS4524
designator U?
Quad Channel fully differential Amplilfier; MF: Texas Instruments; Created: 20190720_Kreppel; MPN: THS4524; Package: TSSOP-38; Supplier 1: Mouser; Supplier Part Number 1: 595-THS4524IDBTR; ComponentLink1Description: Manufacturer; ComponentLink1URL: https://www.ti.com/; ComponentLink2Description: Datasheet; ComponentLink2URL: https://www.ti.com/lit/ds/symlink/ths4524-ep.pdf?ts=1616243707070&ref_url=https%253A%252F%252Fwww.google.com%252F
footprint THS4524 Footprint (THS4524 4Ch Dif Amp, TSSOP)
part A pins: 2 IN+ (in), 3 IN- (in), 4 COM (in), 36 OUT+ (out), 37 OUT- (out)
part B pins: 7 IN+ (in), 8 IN- (in), 9 COM (in), 31 OUT+ (out), 32 OUT- (out)
part C pins: 12 IN+ (in), 13 IN- (in), 14 COM (in), 26 OUT+ (out), 27 OUT- (out)
part D pins: 17 IN+ (in), 18 IN- (in), 19 COM (in), 21 OUT+ (out), 22 OUT- (out)
part E pins: 1 PD1 (in), 5 Vs- (power), 6 PD2 (in), 10 Vs- (power), 11 PD3 (in), 15 Vs-, 16 PD4 (in), 20 Vs4+ (power), 23 Vs- (power), 24 Vs- (power), 25 Vs3+ (power), 28 Vs- (power), 29 Vs- (power), 30 Vs2+ (power), 33 Vs- (power), 34 Vs- (power), 35 Vs1+ (power), 38 Vs- (power)

## TLV74118P
designator U?
150mA, 1.8V LDO; MPN: TLV74118PDBVR; MF: Texas Instruments; Supplier 1: Mouser; Supplier 2: Digi-Key; Supplier Part Number 1: 595-TLV74118PDBVR; Supplier Part Number 2: 296-48986-1-ND; Package: SOT-23-5; ComponentLink1Description: Manufacturer; ComponentLink1URL: https://www.ti.com/; ComponentLink2Description: Datasheet; ComponentLink2URL: https://www.ti.com/lit/ds/symlink/tlv741p.pdf?ts=1616244237493&ref_url=https%253A%252F%252Fwww.google.com%252F
footprint SOT95P250X110-5N (SOT23, 5-Leads, Body 2,92x2,50mm, Pitch 0,95mm, IPC Medium Density)
pins: 1 IN (power), 2 GND (power), 3 EN (in), 4 NC, 5 OUT (power)

## TLV74125P
designator U?
150mA, 2.5V LDO; MPN: TLV74125PDBVR; MF: Texas Instruments; Supplier 1: Mouser; Supplier 2: Digi-Key; Supplier Part Number 1: 595-TLV74125PDBVR; Supplier Part Number 2: 296-49999-1-ND; Package: SOT-23-5; ComponentLink1Description: Manufacturer; ComponentLink1URL: https://www.ti.com/; ComponentLink2Description: Datasheet; ComponentLink2URL: https://www.ti.com/lit/ds/symlink/tlv741p.pdf?ts=1616244237493&ref_url=https%253A%252F%252Fwww.google.com%252F
footprint SOT95P250X110-5N (SOT23, 5-Leads, Body 2,92x2,50mm, Pitch 0,95mm, IPC Medium Density)
pins: 1 IN (power), 2 GND (power), 3 EN (in), 4 NC, 5 OUT (power)

## TP_1mm
designator TP?, comment Testpoint 1mm  (value not drawn)
Created: 2018_06_25_AGeiger; Value: Testpoint 1mm
footprint TP_1mm
pins: 1

## TPS7A30
designator *
TI - TPS7A30 - LDO, ADJ, -0.2A, -1.18V TO -33V, MSOP-8; Manufacturer: Texas Instruments; Manufacturer Part Number: TPS7A3001DGNR; Output Current: 200mA; Max Input Voltage: -36V; Min Input Voltage: -3V; Dropout Voltage: 325mV; Number of Regulators: 1; Min Current Limit: 220mA; Quiescent Current: 50uA; Output Type: Adjustable; Polarity: Negative; Accuracy: 1.5%; Reference Voltage: -1.166V; Max Power Dissipation: 1.83W; Supplier 1: Digi-Key; Supplier 2: Digi-Key; Category: Voltage Regulators - Linear; Pricing 2: 1=3,71000, 10=3,33000, 25=3,14800, 100=2,72840, 250=2,58852, 500=2,32268, 1000=2,20440 (USD); Case/Package: MSOP; Number of Pins: 8; Contact Plating: Gold; Min Operating Temperature: -40°C; Max Operating Temperature: 125°C; Output Voltage: -33V; Packaging: Tape and Reel; Package Quantity: 1; Max Output Current: 200mA; Max Output Voltage: -33V; Min Output Voltage: -1.18V; Number of Outputs: 1; Output Voltage Accuracy: 1.5%; Power Dissipation: 1.83W; Series: -; Radiation Hardening: No; REACH SVHC: No SVHC; Lead Free: Lead Free; RoHS Compliant: Yes; ComponentLink1URL: https://www.ti.com/lit/ds/symlink/tps7a30.pdf; ComponentLink1Description: data sheet; Supplier 3: Newark; Stock 3: 1570; Pricing 3: 1=4,48000, 10=4,20000, 25=4,02000, 50=3,79000, 100=3,60000, 250=3,42000 (USD); Supplier 4: Farnell; Stock 4: 1572; Pricing 4: 1=3,06000, 10=2,45000, 25=2,32000, 50=2,12000, 100=1,91000, 250=1,70000, 500=1,65000, 1000=1,37000 (GBP); Supplier 5: Farnell; Stock 5: 1572; Pricing 5: 10=2,45000, 25=2,32000, 50=2,12000, 100=1,91000, 250=1,70000, 500=1,65000, 1000=1,37000 (GBP)
pins: 1 OUT (power), 2 FB (power), 3 NC, 4 GND, 5 EN (in), 6 NR/SS (power), 7 DNC (power), 8 IN (power)

## TPS7A3001DGN
designator U?
-36V, -200mA, Ultralow-Noise, High PSRR, Adjustable -1.18 to -33 V Output, Negative Linear Regulator, 8-pin MSOP (DGN), -40 to 125 degC, Green (RoHS & no Sb/Br); Manufacturer: Texas Instruments; Alternate Manufacturer: None; Alternate PartNumber: Equivalent; Accuracy(%): 1.5; Iout(Max)(A): 0.2; Iq(Typ)(mA): 0.05; SubFamily: Single Channel LDO; Vdo(Typ)(mV): 216; Vin(Max)(V): -36; Vin(Min)(V): -3; DatasheetVersion: SBVS125A; PackageVersion: 4073271/F; PackageReference: DGN0008D; PackageDescription: 8-pin Plastic Small Outline, Body 3 x 3 mm, Pitch 0.65 mm; Supplier 1: Digi-Key; Supplier Part Number 1: 296-27750-1-ND; Eco-Plan: Green (RoHS & no Sb/Br); Vout Adj(Max)(V): -33; Vout Adj(Min)(V): -1.18; MountType: SMT; Code_JEDEC: MO-187; PartNumber: TPS7A3001DGN; ComponentLink1Description: Manufacturer URL; ComponentLink1URL: http://www.ti.com/; ComponentLink2Description: Datasheet; ComponentLink2URL: http://www.ti.com/general/docs/lit/getliterature.tsp?genericPartNumber=TPS7A3001&fileType=pdf; ComponentLink3Description: Package Specification; ComponentLink3URL: http://www.ti.com/litv/pdf/mpds046e
footprint DGN0008D_N
footprint DGN0008D_L (SOIC, 8-Leads, Body 3x3mm, Pitch 0.65mm, Thermal Pad 1.76x1.425mm, IPC High Density)
footprint DGN0008D_M (SOIC, 8-Leads, Body 3x3mm, Pitch 0.65mm, Thermal Pad 1.76x1.425mm, IPC Low Density)
pins: 1 OUT (power) "Regulator output. A capacitor>=2.2 uF must be tied from this pin to ground to assure stability.", 2 FB (in) "This pin is the input to the control-loop error amplifier. It is used to set the output voltage of the device.", 3 NC hidden "Not internally connected. This pin must either be left open or tied to GND.", 4 GND (power) "Ground", 5 EN (in) "This pin turns the regulator on or off. If VEN>= V+EN_HI or VEN=< V-EN_HI, the regulator is enabled. If V+EN_LO>=VEN>= V-EN_LO, the regulator is disabled. The EN pin can be connected to IN, if not used. |VEN|=< |VIN|.", 6 NR/SS (in) "Noise reduction pin. Connecting an external capacitor to this pin bypasses noise generated by the internal bandgap. This capacitor allows RMS noise to be reduced to very low levels and also controls the soft-start function.", 7 DNC hidden "DO NOT CONNECT. Do not route this pin to any electrical net, not even GND or IN.", 8 IN (power) "Input supply", 9 PAD "Must either be left open or tied to GND. Solder to printed circuit board (PCB) plane to enhance thermal performance"

## TPS7A4901DGN
designator U?
+36V, +150mA, Ultralow-Noise, Positive LINEAR REGULATOR, DGN0008D; Manufacturer: Texas Instruments; SymbolCreator: a0411947; CompType: IC; U/M: EA; SymbolVersion: 2013-09-10; PartNumber: TPS7A4901DGN; PackageReference: DGN0008D; MountType: SMT; ComponentLink1Description: Datasheet Link; ComponentLink1URL: http://www.ti.com/lit/ds/symlink/tps7a4901.pdf; RoHS: Y; Publisher: Texas Instruments; LatestRevisionDate: 2014-11-14; Alternate Manufacturer: Texas Instruments; Supplier 1: Digi-Key; Supplier Part Number 1: 296-27751-1-ND
footprint DGN0008D_N
footprint DGN0008D_M
footprint DGN0008D_L
pins: 1 OUT (power), 2 FB (in), 3 NC hidden, 4 GND (power), 5 EN (in), 6 NR/SS (in), 7 DNC hidden, 8 IN (power), 9 PAD (power)

## TPS763
designator U?
150mA, LDO, max Vin = 10V; MF: Texas Instruments; Supplier 1: Mouser; Supplier 2: Digi-Key; Package: SOT-23-5; ComponentLink1Description: Manufacturer; ComponentLink1URL: https://www.ti.com/; ComponentLink2Description: Datasheet; ComponentLink2URL: https://www.ti.com/lit/ds/symlink/tlv741p.pdf?ts=1616244237493&ref_url=https%253A%252F%252Fwww.google.com%252F
footprint SOT95P250X110-5N (SOT23, 5-Leads, Body 2,92x2,50mm, Pitch 0,95mm, IPC Medium Density)
pins: 1 IN (power), 2 GND (power), 3 EN (in), 4 NC, 5 OUT (power)

## TPS76301
designator U?
150mA, LDO, Vout = variable, max Vin = 10V; MPN: TPS76301; MF: Texas Instruments; Supplier 1: Mouser; Supplier Part Number 1: 595-TPS76301DBVRG4; Package: SOT-23-5; ComponentLink1Description: Manufacturer; ComponentLink1URL: https://www.ti.com/; ComponentLink2Description: Datasheet
footprint SOT95P250X110-5N (SOT23, 5-Leads, Body 2,92x2,50mm, Pitch 0,95mm, IPC Medium Density)
pins: 1 IN (power), 2 GND (power), 3 EN (in), 4 FB, 5 OUT (power)

## TSW-102-07-S-S
designator J?
SAMTEC         TSW-102-07-S-S             CONNECTOR, HEADER, 2 POSITION, 1ROW, 2.54MM; Number of Contacts: 2; Gender: Male; Connector Type: Male Pin; Max Current Rating: 7.6A; Max Voltage Rating (AC): 550V; Supplier 1: Mouser; Manufacturer: Samtec; Manufacturer Part Number: TSW-102-07-S-S; RoHS: Yes; Category: Headers and Wire Housings; Stock 1: 9923; Mount: Through Hole; Contact Material: Bronze; Housing Material: Polyester; Contact Plating: Gold; Color: Black; Housing Color: Black; Min Operating Temperature: -55°C; Max Operating Temperature: 125°C; Packaging: Bulk; Number of Rows: 1; Termination: Solder; Number of Positions: 2; Orientation: Straight; Package Quantity: 1; Length: 5.08mm; Pitch: 2.54mm; Depth: 2.54mm; Contact Mating Length: 0.23inch; Width: 2.54mm; Radiation Hardening: No; REACH SVHC: No SVHC; Lead Free: Lead Free; ComponentLink1URL: https://www.samtec.com/de/; ComponentLink1Description: Manufacturer; ComponentLink2URL: https://datasheet.ciiva.com/16734/htsw-th-16734222.pdf?src-supplier=Avnet+Europe; ComponentLink2Description: Datasheet; Supplier Part Number 1: 200-TSW10207SS
footprint SMTC-TSW-102-07-S-S (Header, 2-Leads, Body 5.08x2.54mm, Pitch 2.54mm)
pins: 1, 2

## WE-CBF, 742792040
designator L?, comment 600Ω
WE-CBF SMD EMI Suppression Ferrite Bead, 0805, 600Ω; MPN: 742792040; MF: Wurth Elektronik; Type: High Current; PublishedDate: Aug 2016; ComponentLink1Description: Manufacturer; ComponentLink1URL: http://www.we-online.de; ComponentLink2Description: Datasheet; ComponentLink2URL: http://katalog.we-online.de/pbs/datasheet/742792040.pdf; Value: 600Ω; Size: 0805; Supplier 1: Farnell; Supplier 2: Mouser; Supplier 3: Digi-Key; Supplier Part Number 1: 2761567; Supplier Part Number 2: 710-742792040; Supplier Part Number 3: 732-1620-1-ND
footprint WE-CBF_0805_High Current (SMD EMI Suppression Ferrite  Bead, body 2.0mmx1.2mm)
pins: 1, 2